# Altium footprint library tact switch.PcbLib: 2 footprints
Each footprint in its own frame and in the unit in brackets; x right, y up, seen from the top. Pads: shape width x height; smd on the part's side, far side on the other; paste and mask are expansions set on the pad; w line width, h text height; cw(c..) or ccw(c..) is an arc to the next point about the centre after c.
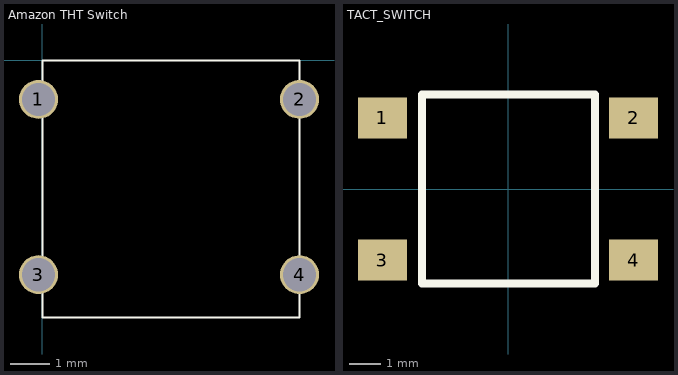
[diagram p0: the footprints below, top view; thin cyan lines are the x and y axes]

## Amazon THT Switch [mm]
pads (4):
  round 1 hole 0.85: 1(-0.1,-1) 2(6.6,-1) 3(-0.1,-5.5) 4(6.6,-5.5)
Top Overlay:
  lines w0.05: 0,-6.6 6.6,-6.6 6.6,0 0,0 0,-6.6
3D body: height 7, standoff -3.5, extent -0.7,-6.35 7.2,-0.15

## TACT_SWITCH [mm]
height 4.3
pads (4):
  rect 1.55x1.3 smd: 1(-3.975,2.25) 2(3.975,2.25) 3(-3.975,-2.25) 4(3.975,-2.25)
Top Overlay:
  lines w0.254: 2.75,-3 2.75,-3 ; 2.75,-3 -2.725,-3 -2.725,3 2.75,3 ; 2.75,-3 2.75,3 ; 2.75,3 2.75,3
3D body: height 4.3, standoff 0, extent -4.25,-3.3 4.25,3.3